# Altium footprint library Mini-Circuits.PcbLib: 45 footprints (part 1 of 3)
Each footprint in its own frame and in the unit in brackets; x right, y up, seen from the top. Pads: shape width x height; smd on the part's side, far side on the other; paste and mask are expansions set on the pad; w line width, h text height; cw(c..) or ccw(c..) is an arc to the next point about the centre after c.
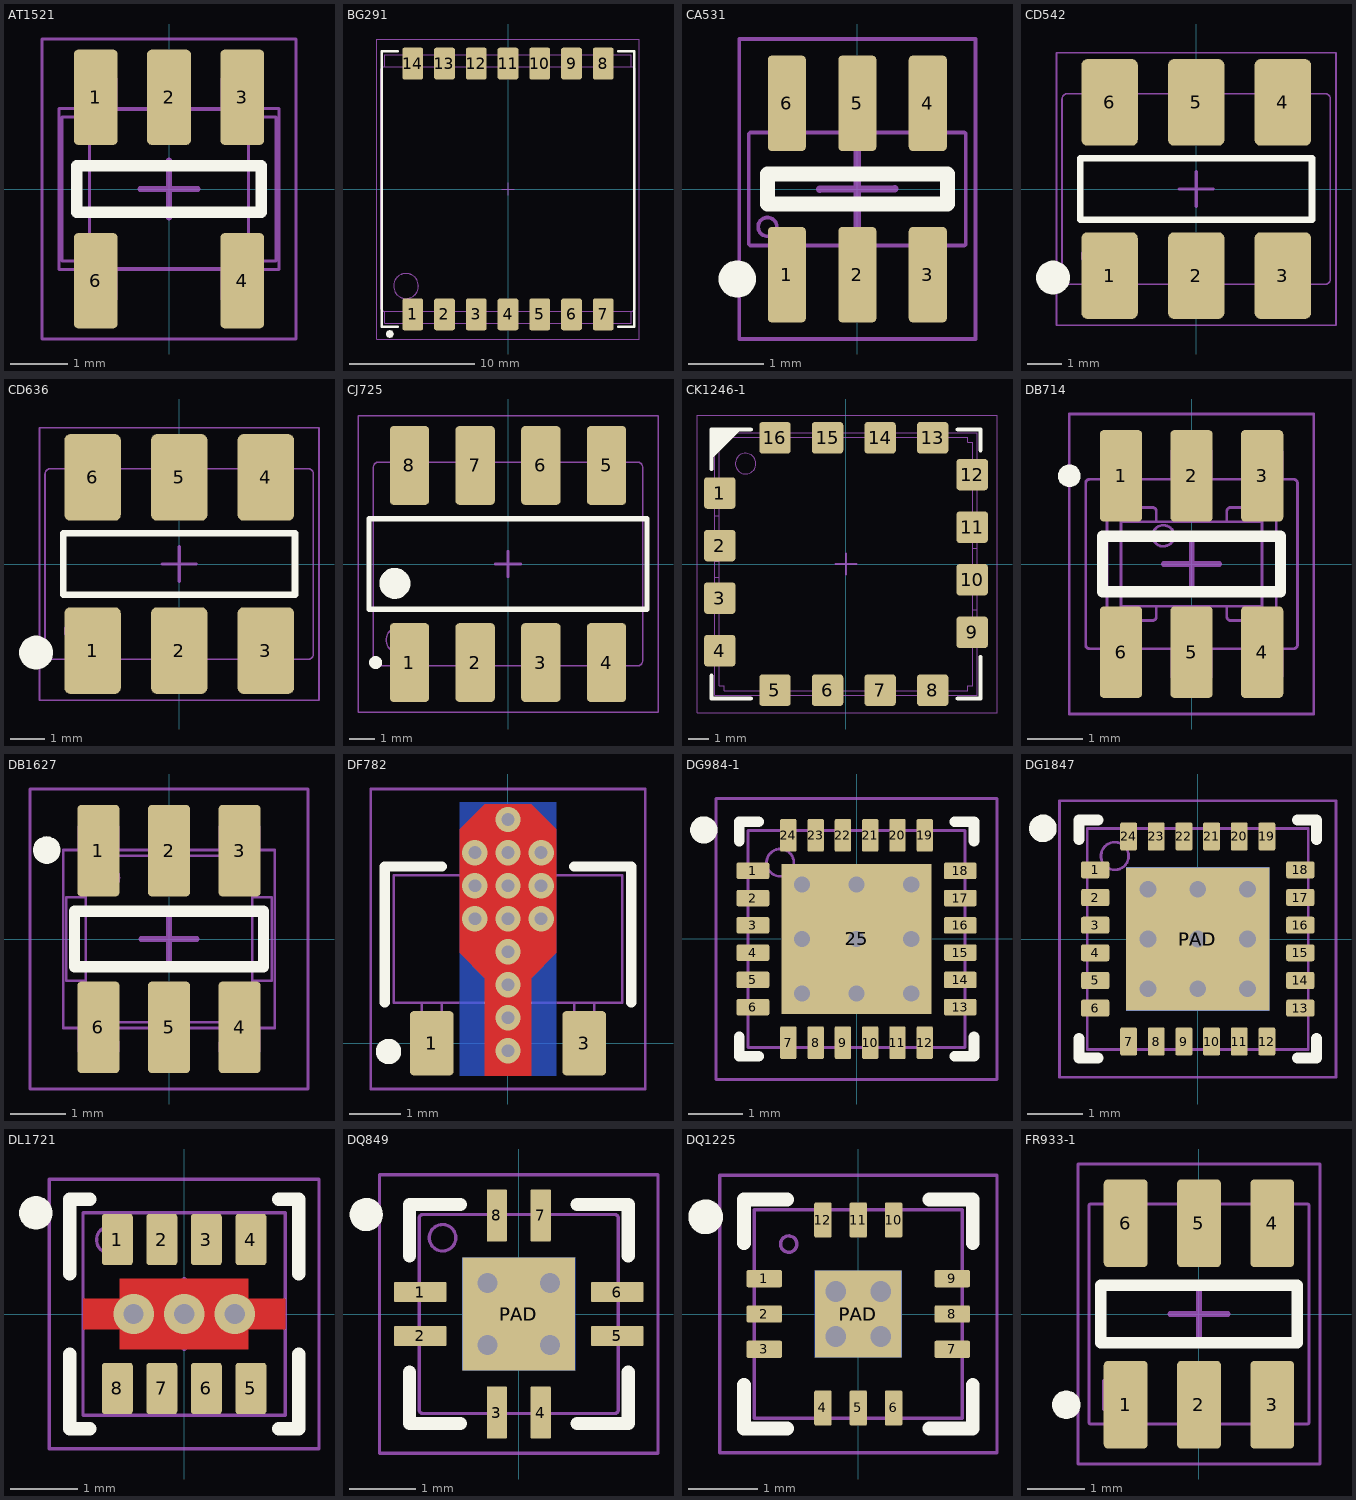
[diagram p0: the footprints below, top view; thin cyan lines are the x and y axes]

## AT1521 [mm] "Mini-Circuts AT1521 Package, 3.81x3.81mm, 5 Leads"
height 4.06
pads (5):
  rrect20% 0.76x1.65 smd: 1(-1.27,1.59) 2(0,1.59) 3(1.27,1.59) 4(1.27,-1.59) 6(-1.27,-1.59)
Top Overlay:
  lines w0.2: -1.6,-0.4 1.6,-0.4 1.6,0.4 -1.6,0.4 -1.6,-0.4
Mechanical 1:
  lines w0.05: -1.625,-1.395 -1.625,-1.905 -0.915,-1.905 -0.915,-1.395 ; -1.625,1.395 -1.625,1.905 -0.915,1.905 -0.915,1.395 ; -1.379,-1.256 -1.379,-1.25 ; -1.375,-1.25 -1.857,-1.25 -1.857,1.25 -1.375,1.25 ; -0.355,1.395 -0.355,1.905 0.355,1.905 0.355,1.395 ; 0.915,-1.395 0.915,-1.905 1.625,-1.905 1.625,-1.395 ; 0.915,1.395 0.915,1.905 1.625,1.905 1.625,1.395 ; 1.375,-1.25 1.857,-1.25 1.857,1.25 1.375,1.25 ; -1.905,-1.395 1.905,-1.395 1.905,1.395 -1.905,1.395 -1.905,-1.395 ; -1.375,-1.375 1.375,-1.375 1.375,1.375 -1.375,1.375 -1.375,-1.375
Mechanical 15:
  lines w0.05: -2.2,-2.6 2.2,-2.6 2.2,2.6 -2.2,2.6 -2.2,-2.6
  lines w0.1: -0.5,0 0.5,0 ; 0,-0.5 0,0.5
3D body "Mini-Circuits_AT1521.STEP": height 4.06, standoff 0, extent -2.102,-1.909 2.102,1.905

## BG291 [mil] "Mini-Circuits BG291 Package, 22.09x20.32mm, 14-Leads"
height 250
pads (14):
  rrect20% 65x100 smd: 1(-300,-395) 2(-200,-395) 3(-100,-395) 4(0,-395) 5(100,-395) 6(200,-395) 7(300,-395) 8(300,395) 9(200,395) 10(100,395) 11(0,395) 12(-100,395) 13(-200,395) 14(-300,395)
Top Overlay:
  region: -372.05,-444.88 -373.6,-444.88 -376.61,-445.69 -379.3,-447.24 -381.5,-449.44 -383.05,-452.13 -383.86,-455.14 -383.86,-458.25 -383.05,-461.25 -381.5,-463.95 -379.3,-466.14 -376.61,-467.7 -373.6,-468.5 -372.05,-468.5 -370.49,-468.5 -367.49,-467.7 -364.8,-466.14 -362.6,-463.95 -361.04,-461.25 -360.24,-458.25 -360.24,-455.14 -361.04,-452.13 -362.6,-449.44 -364.79,-447.24 -367.49,-445.69 -370.49,-444.88
  lines w7.87: -346.46,-433.07 -397.64,-433.07 -397.64,433.07 -346.46,433.07 ; 346.46,-433.07 397.64,-433.07 397.64,433.07 346.46,433.07
Mechanical 1:
  drawing of 152 lines, arcs and shapes, not listed
Mechanical 15:
  lines w3.94: -19.68,0 19.68,0 ; 0,-19.68 0,19.68 ; -413.39,-472.44 413.39,-472.44 413.39,472.44 -413.39,472.44 -413.39,-472.44
3D body "Mini-Circuits_BG291.STEP": height 250, standoff 0, extent -400,-435 400,435

## CA531 [mil] "Mini-Circuits CA531 Package, 2.895x2.605mm, 6 Leads"
height 64.17
pads (7):
  rrect20% 20x50 smd: 1(-37,-45) 2(0,-45) 3(37,-45) 4(37,45) 5(0,45) 6(-37,45)
  round 19.68 on Top Overlay: ""(-62.99,-47.24)
Top Overlay:
  lines w7.87: -47.24,-7.87 47.24,-7.87 47.24,7.87 -47.24,7.87 -47.24,-7.87
Mechanical 1:
  circle w1.97: c-47.15,-19.88 r4.92
  lines w1.97: -44.98,-29.72 -44.98,-47.8 -44.94,-47.83 -29.07,-47.83 -29.04,-47.8 -29.04,-29.72 ; -44.98,29.72 -44.98,47.8 -44.94,47.83 -29.07,47.83 -29.04,47.8 -29.04,29.72 ; -7.97,-29.72 -7.97,-47.8 -7.93,-47.83 7.93,-47.83 7.97,-47.8 7.97,-29.72 ; -7.97,29.72 -7.97,47.8 -7.93,47.83 7.93,47.83 7.97,47.8 7.97,29.72 ; 29.04,-29.72 29.04,-47.8 29.07,-47.83 44.94,-47.83 44.98,-47.8 44.98,-29.72 ; 29.04,29.72 29.04,47.8 29.07,47.83 44.94,47.83 44.98,47.8 44.98,29.72 ; -56.99,-28.94 -56.2,-29.72 56.2,-29.72 56.99,-28.94 56.99,28.94 56.2,29.72 -56.2,29.72 -56.99,28.94 -56.99,-28.94
Mechanical 15:
  lines w1.97: -62.01,-78.74 -62.01,78.74 62.01,78.74 62.01,-78.74 -62.01,-78.74
  lines w3.94: -19.69,0 19.69,0 ; 0,-19.69 0,19.69
3D body "Mini-Circuits_CA531.STEP": height 49.61, standoff 0, extent -56.99,-47.83 56.99,47.83

## CD542 [mm] "Mini-Circuits CD542 Package, 6.91x7.87mm, 6-Leads"
height 2.84
pads (7):
  rrect20% 1.65x2.54 smd: 1(-2.54,-2.54) 2(0,-2.54) 3(2.54,-2.54) 4(2.54,2.54) 5(0,2.54) 6(-2.54,2.54)
  round 1 on Top Overlay: ""(-4.2,-2.6)
Top Overlay:
  lines w0.2: -3.4,-0.9 3.4,-0.9 3.4,0.9 -3.4,0.9 -3.4,-0.9
Mechanical 1:
  circle w0.05: c-3.07,-1.965 r0.291
  lines w0.05: -2.92,-2.795 -2.92,-3.455 -2.16,-3.455 -2.16,-2.795 ; -2.92,2.795 -2.92,3.455 -2.16,3.455 -2.16,2.795 ; -0.38,-2.795 -0.38,-3.455 0.38,-3.455 0.38,-2.795 ; -0.38,2.795 -0.38,3.455 0.38,3.455 0.38,2.795 ; 2.16,-2.795 2.16,-3.455 2.92,-3.455 2.92,-2.795 ; 2.16,2.795 2.16,3.455 2.92,3.455 2.92,2.795 ; -3.935,-2.645 ccw(c-3.785,-2.645) -3.785,-2.795 3.785,-2.795 ccw(c3.785,-2.645) 3.935,-2.645 3.935,2.645 ccw(c3.785,2.645) 3.785,2.795 -3.785,2.795 ccw(c-3.785,2.645) -3.935,2.645 -3.935,-2.645
Mechanical 15:
  lines w0.05: -4.1,-4 4.1,-4 4.1,4 -4.1,4 -4.1,-4
  lines w0.1: -0.5,0 0.5,0 ; 0,-0.5 0,0.5
3D body "Mini-Circuits_CD542.STEP": height 2.84, standoff 0, extent -3.935,-3.455 3.935,3.455

## CD636 [mm] "Mini-Circuits CD636 Package, 6.91x7.87mm, 6-Leads"
height 4.11
pads (7):
  rrect20% 1.65x2.54 smd: 1(-2.54,-2.54) 2(0,-2.54) 3(2.54,-2.54) 4(2.54,2.54) 5(0,2.54) 6(-2.54,2.54)
  round 1 on Top Overlay: ""(-4.2,-2.6)
Top Overlay:
  lines w0.2: -3.4,-0.9 -3.4,0.9 3.4,0.9 3.4,-0.9 -3.4,-0.9
Mechanical 1:
  circle w0.05: c-3.07,-1.965 r0.291
  lines w0.05: -2.92,-2.795 -2.92,-3.455 -2.16,-3.455 -2.16,-2.795 ; -2.92,2.795 -2.92,3.455 -2.16,3.455 -2.16,2.795 ; -0.38,-2.795 -0.38,-3.455 0.38,-3.455 0.38,-2.795 ; -0.38,2.795 -0.38,3.455 0.38,3.455 0.38,2.795 ; 2.16,-2.795 2.16,-3.455 2.92,-3.455 2.92,-2.795 ; 2.16,2.795 2.16,3.455 2.92,3.455 2.92,2.795 ; -3.935,-2.645 ccw(c-3.785,-2.645) -3.785,-2.795 3.785,-2.795 ccw(c3.785,-2.645) 3.935,-2.645 3.935,2.645 ccw(c3.785,2.645) 3.785,2.795 -3.785,2.795 ccw(c-3.785,2.645) -3.935,2.645 -3.935,-2.645
Mechanical 15:
  lines w0.05: -4.1,-4 -4.1,4 4.1,4 4.1,-4 -4.1,-4
  lines w0.1: -0.5,0 0.5,0 ; 0,-0.5 0,0.5
3D body "Mini-Circuits_CD636.STEP": height 4.11, standoff 0, extent -3.935,-3.455 3.935,3.455

## CJ725 [mil] "Mini-Circuits CJ725 Package, 10.41x7.87mm, 8-Leads, Pitch 2.54mm"
height 215.35
pads (8):
  rrect20% 60x120 smd: 1(-150,-150) 2(-50,-150) 3(50,-150) 4(150,-150) 5(150,150) 6(50,150) 7(-50,150) 8(-150,150)
Top Overlay:
  circle w9.84: c-201.65,-150 r4.92
  circle w23.62: c-172.24,-29.53 r11.81
  lines w7.87: -211.61,-68.9 211.61,-68.9 211.61,68.9 -211.61,68.9 -211.61,-68.9
Mechanical 1:
  circle w1.97: c-165.63,-115.63 r19.68
  lines w1.97: -160,-155 -160,-198.5 -140,-198.5 -140,-155 ; -160,155 -160,198.5 -140,198.5 -140,155 ; -60,-155 -60,-198.5 -40,-198.5 -40,-155 ; -60,155 -60,198.5 -40,198.5 -40,155 ; 40,-155 40,-198.5 60,-198.5 60,-155 ; 40,155 40,198.5 60,198.5 60,155 ; 140,-155 140,-198.5 160,-198.5 160,-155 ; 140,155 140,198.5 160,198.5 160,155 ; -205,-147.13 ccw(c-197.13,-147.13) -197.13,-155 197.13,-155 ccw(c197.13,-147.13) 205,-147.13 205,147.13 ccw(c197.13,147.13) 197.13,155 -197.13,155 ccw(c-197.13,147.13) -205,147.13 -205,-147.13
Mechanical 15:
  lines w1.97: -228.35,-225.39 228.35,-225.39 228.35,225.39 -228.35,225.39 -228.35,-225.39
  lines w3.94: -19.69,0 19.69,0 ; 0,-19.69 0,19.69
3D body "Mini-Circuits_CJ725.STEP": height 215, standoff 0, extent -205,-198.5 205,198.5

## CK1246-1 [mm] "Mini-Circuits CK1246-1 Package, 12.70x12.70mm, 16-Leads, 2.54mm Pitch"
height 4.57
pads (16):
  rrect20% 1.52x1.52 smd: 1(-6.1,3.43) 2(-6.1,0.89) 3(-6.1,-1.65) 4(-6.1,-4.19) 5(-3.43,-6.1) 6(-0.89,-6.1) 7(1.65,-6.1) 8(4.19,-6.1) 9(6.1,-3.3) 10(6.1,-0.76) 11(6.1,1.78) 12(6.1,4.32) 13(4.19,6.1) 14(1.65,6.1) 15(-0.89,6.1) 16(-3.43,6.1)
Top Overlay:
  region: -6.5,6.5 -6.5,5.2 -5.2,6.5
  lines w0.2: -6.5,-5.4 -6.5,-6.5 -4.6,-6.5 ; -6.5,4.6 -6.5,6.5 -4.6,6.5 ; -6.5,5.2 -5.2,6.5 ; 5.4,-6.5 6.5,-6.5 6.5,-4.5 ; 5.4,6.5 6.5,6.5 6.5,5.5
Mechanical 1:
  circle w0.05: c-4.85,4.85 r0.5
  lines w0.05: -6.35,-0.63 -6.125,-0.63 ; -6.35,0.13 -6.125,0.13 ; -6.35,1.571 -6.125,1.571 ; -6.35,2.331 -6.125,2.331 ; -6.125,-4.521 cw(c-6.35,-4.19) -6.35,-4.59 -6.35,-6.35 -3.83,-6.35 cw(c-3.43,-6.35) -3.761,-6.125 ; -6.125,-3.859 ccw(c-6.35,-4.19) -6.35,-3.79 -6.35,-2.05 ccw(c-6.35,-1.65) -6.125,-1.981 ; -6.125,-1.319 ccw(c-6.35,-1.65) -6.35,-1.25 -6.35,0.49 ccw(c-6.35,0.89) -6.125,0.559 ; -6.125,1.221 ccw(c-6.35,0.89) -6.35,1.29 -6.35,3.03 ccw(c-6.35,3.43) -6.125,3.099 ; -6.125,3.761 ccw(c-6.35,3.43) -6.35,3.83 -6.35,6.35 -3.83,6.35 ccw(c-3.43,6.35) -3.761,6.125 ; -3.099,-6.125 cw(c-3.43,-6.35) -3.03,-6.35 -1.29,-6.35 cw(c-0.89,-6.35) -1.221,-6.125 ; -3.099,6.125 ccw(c-3.43,6.35) -3.03,6.35 -1.29,6.35 ccw(c-0.89,6.35) -1.221,6.125 ; -0.559,-6.125 cw(c-0.89,-6.35) -0.49,-6.35 1.25,-6.35 cw(c1.65,-6.35) 1.319,-6.125 ; -0.559,6.125 ccw(c-0.89,6.35) -0.49,6.35 1.25,6.35 ccw(c1.65,6.35) 1.319,6.125 ; 1.981,-6.125 cw(c1.65,-6.35) 2.05,-6.35 3.79,-6.35 cw(c4.19,-6.35) 3.859,-6.125 ; 1.981,6.125 ccw(c1.65,6.35) 2.05,6.35 3.79,6.35 ccw(c4.19,6.35) 3.859,6.125 ; 4.521,-6.125 cw(c4.19,-6.35) 4.59,-6.35 6.35,-6.35 6.35,-3.7 cw(c6.35,-3.3) 6.125,-3.631 ; 4.521,6.125 ccw(c4.19,6.35) 4.59,6.35 6.35,6.35 6.35,4.72 ccw(c6.35,4.32) 6.125,4.651 ; 6.125,-2.969 cw(c6.35,-3.3) 6.35,-2.9 6.35,-1.16 cw(c6.35,-0.76) 6.125,-1.091 ; 6.125,-2.201 6.35,-2.201 ; 6.125,-1.441 6.35,-1.441 ; 6.125,-0.429 cw(c6.35,-0.76) 6.35,-0.36 6.35,1.38 cw(c6.35,1.78) 6.125,1.449 ; 6.125,0 6.35,0 ; 6.125,0.76 6.35,0.76 ; 6.125,2.111 cw(c6.35,1.78) 6.35,2.18 6.35,3.92 cw(c6.35,4.32) 6.125,3.989 ; -6.125,-5.875 -5.875,-5.875 -5.875,-6.125 5.875,-6.125 5.875,-5.875 6.125,-5.875 6.125,5.875 5.875,5.875 5.875,6.125 -5.875,6.125 -5.875,5.875 -6.125,5.875 -6.125,-5.875
Mechanical 15:
  lines w0.05: -7.2,-7.2 7.3,-7.2 7.3,7.2 -7.2,7.2 -7.2,-7.2
  lines w0.1: -0.5,0 0.5,0 ; 0,-0.5 0,0.5
3D body "Mini-Circuits_CK1246-1.STEP": height 4.57, standoff 0, extent -6.35,-6.35 6.35,6.35

## DB714 [mil] "Mini-Circuits DB714 Package, 3.81x3.05mm, 6-Leads"
height 160
pads (6):
  rrect20% 30x65 smd: 1(-50,62.5) 2(0,62.5) 3(50,62.5) 4(50,-62.5) 5(0,-62.5) 6(-50,-62.5)
Top Overlay:
  region: -86.61,70.37 -88.18,70.37 -91.07,69.18 -93.29,66.96 -94.49,64.07 -94.49,60.93 -93.29,58.04 -91.07,55.82 -88.18,54.63 -86.61,54.63 -85.05,54.63 -82.15,55.82 -79.94,58.04 -78.74,60.93 -78.74,64.07 -79.94,66.96 -82.15,69.18 -85.05,70.37
  lines w7.87: -62.99,-19.68 -62.99,19.68 62.99,19.68 62.99,-19.68 -62.99,-19.68
Mechanical 1:
  circle w1.97: c-20,20 r7.5
  lines w1.97: -64,-60 -64,-80 -36,-80 -36,-60 ; -64,60 -64,80 -36,80 -36,60 ; -25,-30 -25,-37.5 cw(c-27.5,-37.5) -27.5,-40 -57.5,-40 cw(c-57.5,-37.5) -60,-37.5 -60,37.5 cw(c-57.5,37.5) -57.5,40 -27.5,40 cw(c-27.5,37.5) -25,37.5 -25,30 ; -14,-60 -14,-80 14,-80 14,-60 ; -14,60 -14,80 14,80 14,60 ; 25,-30 25,-37.5 ccw(c27.5,-37.5) 27.5,-40 57.5,-40 ccw(c57.5,-37.5) 60,-37.5 60,37.5 ccw(c57.5,37.5) 57.5,40 27.5,40 ccw(c27.5,37.5) 25,37.5 25,30 ; 36,-60 36,-80 64,-80 64,-60 ; 36,60 36,80 64,80 64,60 ; -75,-57.5 ccw(c-72.5,-57.5) -72.5,-60 72.5,-60 ccw(c72.5,-57.5) 75,-57.5 75,57.5 ccw(c72.5,57.5) 72.5,60 -72.5,60 ccw(c-72.5,57.5) -75,57.5 -75,-57.5 ; -50,-30 -50,30 50,30 50,-30 -50,-30
Mechanical 15:
  lines w1.97: -86.61,-106.3 86.61,-106.3 86.61,106.3 -86.61,106.3 -86.61,-106.3
  lines w3.94: -19.68,0 19.68,0 ; 0,-19.68 0,19.68
3D body "Mini-Circuits_DB714.STEP": height 160, standoff 0, extent -75,-80 75,80

## DB1627 [mm]
pads (7):
  rrect20% 0.76x1.65 smd: 1(-1.27,1.59) 2(0,1.59) 3(1.27,1.59) 4(1.27,-1.59) 5(0,-1.59) 6(-1.27,-1.59)
  round 0.5 on Top Overlay: ""(-2.2,1.6)
Top Overlay:
  lines w0.2: -1.7,-0.5 1.7,-0.5 1.7,0.5 -1.7,0.5 -1.7,-0.5
Mechanical 1:
  circle w0.05: c-1.1,1.1 r0.2
  lines w0.05: -1.625,-1.6 -1.625,-2.03 -0.915,-2.03 -0.915,-1.854 ; -1.625,1.6 -1.625,2.03 -0.915,2.03 -0.915,1.6 ; -1.5,-0.75 -1.85,-0.75 -1.85,0.75 -1.5,0.75 ; -1.3,-1.6 -1.3,-1.5 ; -1.3,1.5 -1.3,1.6 ; -0.355,-1.6 -0.355,-2.03 0.355,-2.03 0.355,-1.6 ; -0.355,1.6 -0.355,2.03 0.355,2.03 0.355,1.6 ; 0.915,-1.859 0.915,-2.03 1.625,-2.03 1.625,-1.6 ; 0.915,1.6 0.915,2.03 1.625,2.03 1.625,1.6 ; 1.3,-1.6 1.3,-1.5 ; 1.3,1.5 1.3,1.6 ; 1.5,-0.75 1.85,-0.75 1.85,0.75 1.5,0.75 ; -1.905,-1.6 1.905,-1.6 1.905,-0.932 1.905,1.6 -1.905,1.6 -1.905,-1.6 ; -1.5,-1.5 1.5,-1.5 1.5,1.5 -1.5,1.5 -1.5,-1.5
Mechanical 15:
  lines w0.05: -2.5,-2.7 2.5,-2.7 2.5,2.7 -2.5,2.7 -2.5,-2.7
  lines w0.1: -0.5,0 0.5,0 ; 0,-0.5 0,0.5
3D body "Mini-Circuits_DB1627.STEP": height 4.06, standoff 0, extent -2.384,-2.03 2.398,2.03

## DF782 [mm] "DF782, 3-Leads, Body 4.50x2.45mm, Pitch 1.50mm"
height 1.6
pads (3):
  rrect20% 0.86x1.27 smd: 1(-1.5,0) 3(1.5,0)
  round 0.025 smd: 2(0,0)
via -0.65,2.45 diameter 0.5 hole 0.25
via 0,2.45 diameter 0.5 hole 0.25
via 0.65,2.45 diameter 0.5 hole 0.25
via 0,4.4 diameter 0.5 hole 0.25
via 0.65,3.75 diameter 0.5 hole 0.25
via -0.65,3.75 diameter 0.5 hole 0.25
via 0,3.75 diameter 0.5 hole 0.25
via 0.65,3.1 diameter 0.5 hole 0.25
via -0.65,3.1 diameter 0.5 hole 0.25
via 0,3.1 diameter 0.5 hole 0.25
via 0,1.8 diameter 0.5 hole 0.25
via 0,1.15 diameter 0.5 hole 0.25
via 0,0.5 diameter 0.5 hole 0.25
via 0,-0.15 diameter 0.5 hole 0.25
Top Layer:
  region: 0.457,-0.635 0.457,1.283 0.953,1.778 0.953,4.204 0.457,4.699 -0.457,4.699 -0.952,4.204 -0.952,1.778 -0.457,1.283 -0.457,-0.635
Bottom Layer:
  region: 0.953,-0.635 -0.952,-0.635 -0.953,4.735 0.953,4.735
Top Overlay:
  circle w0.25: c-2.35,-0.163 r0.125
  lines w0.2: -2.425,0.8 -2.425,3.475 -1.3,3.475 ; 1.3,3.475 2.425,3.475 2.425,0.8
Mechanical 1:
  lines w0.05: -1.7,0.8 -1.7,-0.2 -1.3,-0.2 -1.3,0.8 ; -0.8,3.3 -0.8,3.65 -0.56,3.8 0.56,3.8 0.8,3.65 0.8,3.3 ; -0.2,0.8 -0.2,-0.2 0.2,-0.2 0.2,0.8 ; 1.3,0.8 1.3,-0.2 1.7,-0.2 1.7,0.8 ; -2.25,0.8 -2.25,3.3 2.25,3.3 2.25,0.8 -2.25,0.8
Mechanical 15:
  lines w0.05: -2.7,-0.9 2.7,-0.9 2.7,5 -2.7,5 -2.7,-0.9
  lines w0.1: -0.5,1.787 0.5,1.787 ; 0,1.287 0,2.287
3D body "SOT-89-3.step": height 1.52, standoff 0, extent -2.25,-0.2 2.25,3.8

## DG984-1 [mm] "Mini-Circuits DG984-1 Package, 24-Leads, 4.00x4.00mm, Pitch 0.50mm, Thermal Pad 2.75x2.75mm"
height 0.75
pads (25):
  rrect20% 0.6x0.3 smd: 1(-1.9,1.25) 2(-1.9,0.75) 3(-1.9,0.25) 4(-1.9,-0.25) 5(-1.9,-0.75) 6(-1.9,-1.25) 13(1.9,-1.25) 14(1.9,-0.75) 15(1.9,-0.25) 16(1.9,0.25) 17(1.9,0.75) 18(1.9,1.25)
  rrect20% 0.3x0.6 smd: 7(-1.25,-1.9) 8(-0.75,-1.9) 9(-0.25,-1.9) 10(0.25,-1.9) 11(0.75,-1.9) 12(1.25,-1.9) 19(1.25,1.9) 20(0.75,1.9) 21(0.25,1.9) 22(-0.25,1.9) 23(-0.75,1.9) 24(-1.25,1.9)
  rect 2.75x2.75 smd: 25(0,0)
via 0,0 diameter 0.6 hole 0.3
via -1,0 diameter 0.6 hole 0.3
via -1,1 diameter 0.6 hole 0.3
via 0,1 diameter 0.6 hole 0.3
via 1,1 diameter 0.6 hole 0.3
via 1,0 diameter 0.6 hole 0.3
via 1,-1 diameter 0.6 hole 0.3
via 0,-1 diameter 0.6 hole 0.3
via -1,-1 diameter 0.6 hole 0.3
Top Overlay:
  circle w0.25: c-2.8,2 r0.125
  lines w0.2: -2.15,-1.8 -2.15,-2.15 -1.8,-2.15 ; -2.15,1.8 -2.15,2.15 -1.8,2.15 ; 1.8,-2.15 2.15,-2.15 2.15,-1.8 ; 1.8,2.15 2.15,2.15 2.15,1.8
Mechanical 1:
  circle w0.05: c-1.4,1.4 r0.25
  lines w0.05: -1.99,-1.375 -2,-1.375 -2,-1.125 -1.99,-1.125 ; -1.99,-0.875 -2,-0.875 -2,-0.625 -1.99,-0.625 ; -1.99,-0.375 -2,-0.375 -2,-0.125 -1.99,-0.125 ; -1.99,0.125 -2,0.125 -2,0.375 -1.99,0.375 ; -1.99,0.625 -2,0.625 -2,0.875 -1.99,0.875 ; -1.99,1.125 -2,1.125 -2,1.375 -1.99,1.375 ; -1.375,-1.99 -1.375,-2 -1.125,-2 -1.125,-1.99 ; -1.375,1.99 -1.375,2 -1.125,2 -1.125,1.99 ; -0.875,-1.99 -0.875,-2 -0.625,-2 -0.625,-1.99 ; -0.875,1.99 -0.875,2 -0.625,2 -0.625,1.99 ; -0.375,-1.99 -0.375,-2 -0.125,-2 -0.125,-1.99 ; -0.375,1.99 -0.375,2 -0.125,2 -0.125,1.99 ; 0.125,-1.99 0.125,-2 0.375,-2 0.375,-1.99 ; 0.125,1.99 0.125,2 0.375,2 0.375,1.99 ; 0.625,-1.99 0.625,-2 0.875,-2 0.875,-1.99 ; 0.625,1.99 0.625,2 0.875,2 0.875,1.99 ; 1.125,-1.99 1.125,-2 1.375,-2 1.375,-1.99 ; 1.125,1.99 1.125,2 1.375,2 1.375,1.99 ; 1.99,-1.375 2,-1.375 2,-1.125 1.99,-1.125 ; 1.99,-0.875 2,-0.875 2,-0.625 1.99,-0.625 ; 1.99,-0.375 2,-0.375 2,-0.125 1.99,-0.125 ; 1.99,0.125 2,0.125 2,0.375 1.99,0.375 ; 1.99,0.625 2,0.625 2,0.875 1.99,0.875 ; 1.99,1.125 2,1.125 2,1.375 1.99,1.375 ; -1.99,-1.99 -1.99,1.99 1.99,1.99 1.99,-1.99 -1.99,-1.99
Mechanical 15:
  lines w0.05: -2.575,-2.575 -2.575,2.575 2.575,2.575 2.575,-2.575 -2.575,-2.575
  lines w0.1: -0.5,0 0.5,0 ; 0,-0.5 0,0.5
3D body "QFN-24-1EP_4x4mm_P0.5mm_EP2.7x2.7mm.step": height 1.1, standoff 0, extent -2,-2 2,2

## DG1847 [mil] "Mini-Circuits DG1847 Package, 24-Leads, Body 4.00x4.00mm, Pitch 0.50mm, Thermal Pad 2.59x2.59mm"
height 393.7
pads (26):
  rrect20% 20x12 smd: 1(-73,49.21) 2(-73,29.53) 3(-73,9.84) 4(-73,-9.84) 5(-73,-29.53) 6(-73,-49.21) 13(73,-49.21) 14(73,-29.53) 15(73,-9.84) 16(73,9.84) 17(73,29.53) 18(73,49.21)
  rrect20% 12x20 smd: 7(-49.21,-73) 8(-29.53,-73) 9(-9.84,-73) 10(9.84,-73) 11(29.53,-73) 12(49.21,-73) 19(49.21,73) 20(29.53,73) 21(9.84,73) 22(-9.84,73) 23(-29.53,73) 24(-49.21,73)
  rect 102x102 smd: PAD(0,0)
  rect 102x102 smd far side paste-99999: PAD(0,0)
via 0,-35.43 diameter 23.62 hole 11.81
via 35.43,-35.43 diameter 23.62 hole 11.81
via 35.43,0 diameter 23.62 hole 11.81
via 35.43,35.43 diameter 23.62 hole 11.81
via 0,35.43 diameter 23.62 hole 11.81
via -35.43,35.43 diameter 23.62 hole 11.81
via -35.43,0 diameter 23.62 hole 11.81
via 0,0 diameter 23.62 hole 11.81
via -35.43,-35.43 diameter 23.62 hole 11.81
Top Overlay:
  circle w9.84: c-110.24,78.74 r4.92
  lines w7.87: -84.65,-70.96 -84.65,-84.65 -70.96,-84.65 ; -84.65,70.96 -84.65,84.65 -70.96,84.65 ; 70.96,-84.65 84.65,-84.65 84.65,-70.96 ; 70.96,84.65 84.65,84.65 84.65,70.96
Mechanical 1:
  circle w1.97: c-59.06,59.06 r9.84
  lines w1.97: -78.74,-78.74 78.74,-78.74 78.74,78.74 -78.74,78.74 -78.74,-78.74
Mechanical 15:
  lines w1.97: -98.43,-98.43 -98.43,98.43 98.43,98.43 98.43,-98.43 -98.43,-98.43
  lines w3.94: -19.68,0 19.68,0 ; 0,-19.68 0,19.68
3D body "Mini-Circuits_DG1847.STEP": height 39.37, standoff 0, extent -78.74,-78.74 78.74,78.74

## DL1721 [mil] "Mini-Circuits DL1721 Case, Body 3.00x3.00mm, Pitch 0.66mm"
height 45
pads (10):
  rrect20% 18x30 smd: 1(-39,43.5) 2(-13,43.5) 3(13,43.5) 4(39,43.5) 5(39,-43.5) 6(13,-43.5) 7(-13,-43.5) 8(-39,-43.5)
  round 1 smd: PAD(0,0)
  round 19.68 on Top Overlay: ""(-86.61,59.06)
via 0,0 diameter 23.62 hole 11.81
via -29.53,0 diameter 23.62 hole 11.81
via 29.53,0 diameter 23.62 hole 11.81
Top Layer:
  region: -59.06,-9 -59.06,9 -37.5,9 -37.5,20.5 37.5,20.5 37.5,9 59.06,9 59.06,-9 37.5,-9 37.5,-20.5 -37.5,-20.5 -37.5,-9
Top Overlay:
  lines w7.87: -66.93,-23.62 -66.93,-66.93 -55.12,-66.93 ; -66.93,23.62 -66.93,66.93 -55.12,66.93 ; 55.12,-66.93 66.93,-66.93 66.93,-23.62 ; 55.12,66.93 66.93,66.93 66.93,23.62
Mechanical 1:
  circle w1.97: c-43.31,43.31 r7.87
  lines w1.97: -59.06,-59.06 -59.06,59.06 59.06,59.06 59.06,-59.06 -59.06,-59.06
Mechanical 15:
  lines w1.97: -78.74,-78.74 78.74,-78.74 78.74,78.74 -78.74,78.74 -78.74,-78.74
  lines w3.94: -19.68,0 19.68,0 ; 0,-19.68 0,19.68
3D body "Mini-Circuits_DL1721.STEP": height 44.88, standoff 0, extent -59.06,-59.06 59.06,59.06

## DQ849 [mil] "Mini-Circuits DQ849 Package, 8-Leads, Body 3.00x3.00mm, Pitch 0.66mm, Thermal Pad 1.70x1.70mm"
height 35.04
pads (10):
  rrect10% 31x12 smd: 1(-58.5,13) 2(-58.5,-13) 5(58.5,-13)
  rrect10% 12x31 smd: 3(-13,-58.5) 4(13,-58.5) 7(13,58.5) 8(-13,58.5)
  rrect10% 31.1x11.81 smd: 6(58.5,13)
  rect 67x67 smd: PAD(0,0)
  rect 67.01x67.01 smd far side paste-99999: PAD(0,0)
via -18.5,-18.5 diameter 23.62 hole 11.81
via 18.5,-18.5 diameter 23.62 hole 11.81
via -18.5,18.5 diameter 23.62 hole 11.81
via 18.5,18.5 diameter 23.62 hole 11.81
Top Overlay:
  circle w9.84: c-90.55,59.06 r4.92
  lines w7.87: -64.96,-34.65 -64.96,-64.96 -34.65,-64.96 ; -64.96,34.65 -64.96,64.96 -34.65,64.96 ; 34.65,-64.96 64.96,-64.96 64.96,-34.65 ; 34.65,64.96 64.96,64.96 64.96,34.65
Mechanical 1:
  circle w1.97: c-45.28,45.28 r7.87
  lines w1.97: -59.06,-57.09 ccw(c-57.09,-57.09) -57.09,-59.06 57.09,-59.06 ccw(c57.09,-57.09) 59.06,-57.09 59.06,57.09 ccw(c57.09,57.09) 57.09,59.06 -57.09,59.06 ccw(c-57.09,57.09) -59.06,57.09 -59.06,-57.09
Mechanical 15:
  lines w1.97: -82.68,-82.68 82.68,-82.68 82.68,82.68 -82.68,82.68 -82.68,-82.68
  lines w3.94: -19.68,0 19.69,0 ; 0,-19.69 0,19.68
3D body "Mini-Circuits_DQ849.STEP": height 35.04, standoff 0, extent -59.06,-59.06 59.06,59.06

## DQ1225 [mm] "Mini-Circuits DQ1225 Package, 12-Leads, Body 3.00x3.00mm, Pitch 0.50mm, Thermal Pad 1.45x1.45mm"
height 0.89
pads (14):
  rrect20% 0.51x0.25 smd: 1(-1.355,0.51) 2(-1.355,0) 3(-1.355,-0.51) 7(1.355,-0.51) 8(1.355,0) 9(1.355,0.51)
  rrect20% 0.25x0.51 smd: 4(-0.51,-1.355) 5(0,-1.355) 6(0.51,-1.355) 10(0.51,1.355) 11(0,1.355) 12(-0.51,1.355)
  rect 1.25x1.25 smd: PAD(0,0)
  rect 1.25x1.25 smd far side paste-2539.97: PAD(0,0)
via -0.325,0.325 diameter 0.6 hole 0.3
via 0.325,0.325 diameter 0.6 hole 0.3
via 0.325,-0.325 diameter 0.6 hole 0.3
via -0.325,-0.325 diameter 0.6 hole 0.3
Top Overlay:
  circle w0.25: c-2.2,1.4 r0.125
  lines w0.2: -1.65,-1.025 -1.65,-1.65 -1.025,-1.65 ; -1.65,1.025 -1.65,1.65 -1.025,1.65 ; 1.025,-1.65 1.65,-1.65 1.65,-1.025 ; 1.025,1.65 1.65,1.65 1.65,1.025
Mechanical 1:
  circle w0.05: c-1.003,1.008 r0.117
  lines w0.05: -1.5,-0.625 -1.501,-0.625 -1.501,-0.395 -1.5,-0.395 ; -1.5,-0.115 -1.501,-0.115 -1.501,0.115 -1.5,0.115 ; -1.5,0.395 -1.501,0.395 -1.501,0.625 -1.5,0.625 ; -0.625,-1.5 -0.625,-1.501 -0.395,-1.501 -0.395,-1.5 ; -0.625,1.5 -0.625,1.501 -0.395,1.501 -0.395,1.5 ; -0.115,-1.5 -0.115,-1.501 0.115,-1.501 0.115,-1.5 ; -0.115,1.5 -0.115,1.501 0.115,1.501 0.115,1.5 ; 0.395,-1.5 0.395,-1.501 0.625,-1.501 0.625,-1.5 ; 0.395,1.5 0.395,1.501 0.625,1.501 0.625,1.5 ; 1.5,-0.625 1.501,-0.625 1.501,-0.395 1.5,-0.395 ; 1.5,-0.115 1.501,-0.115 1.501,0.115 1.5,0.115 ; 1.5,0.395 1.501,0.395 1.501,0.625 1.5,0.625 ; -1.5,-1.5 -1.5,1.5 1.5,1.5 1.5,-1.5 -1.5,-1.5
Mechanical 15:
  lines w0.05: -2,-2 2,-2 2,2 -2,2 -2,-2
  lines w0.1: -0.5,0 0.5,0 ; 0,-0.5 0,0.5
3D body "Mini-Circuits_DQ1225.STEP": height 0.35, standoff -0.01, extent -1.501,-1.501 1.501,1.501

## FR933-1 [mil] "Mini-Circuits FR933-1 Package, 3.81x3.81mm, 6-Leads"
pads (7):
  rrect20% 30x60 smd: 1(-50,-61.94) 2(0,-61.94) 3(50,-61.94) 4(50,61.94) 5(0,61.94) 6(-50,61.94)
  round 19.68 on Top Overlay: ""(-90.55,-61.94)
Top Overlay:
  lines w7.87: -66.93,-19.68 66.93,-19.68 66.93,19.68 -66.93,19.68 -66.93,-19.68
Mechanical 1:
  lines w1.97: -75,-74.02 ccw(c-74.02,-74.02) -74.02,-75 74.02,-75 ccw(c74.02,-74.02) 75,-74.02 75,74.02 ccw(c74.02,74.02) 74.02,75 -74.02,75 ccw(c-74.02,74.02) -75,74.02 -75,-74.02 ; -65.16,-65.16 -45.47,-65.16 -45.47,-45.47 -65.16,-45.47 -65.16,-65.16
Mechanical 15:
  lines w1.97: -82.68,-102.36 82.68,-102.36 82.68,102.36 -82.68,102.36 -82.68,-102.36
  lines w3.94: -19.68,0 19.68,0 ; 0,-19.68 0,19.68
3D body "Mini-Circuits_FR933-1.STEP": height 59.06, standoff 0, extent -75,-75 75,75